# Altium footprint library LGA20-SPE-BMX055.PcbLib: 1 footprints
Each footprint in its own frame and in the unit in brackets; x right, y up, seen from the top. Pads: shape width x height; smd on the part's side, far side on the other; paste and mask are expansions set on the pad; w line width, h text height; cw(c..) or ccw(c..) is an arc to the next point about the centre after c.
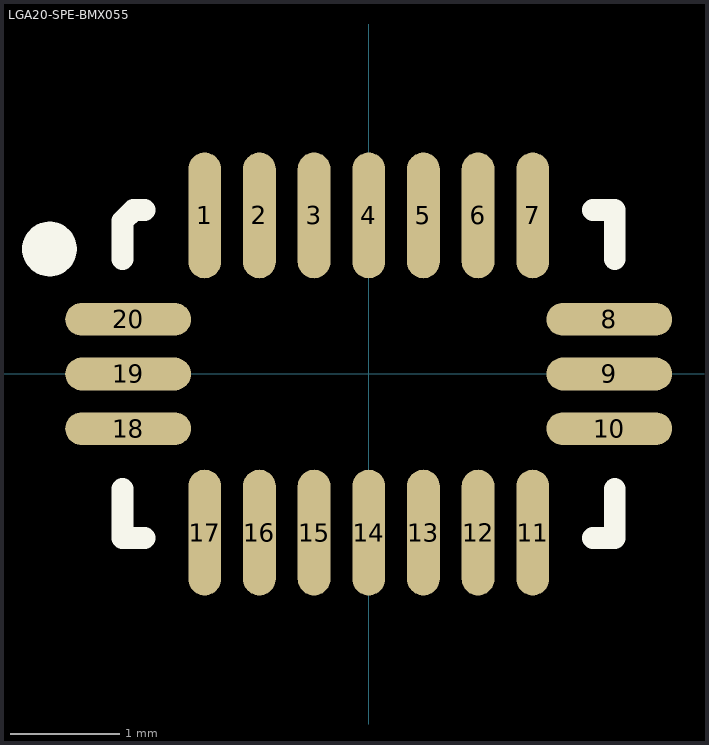
[diagram p0: the footprint, top view; thin cyan lines are the x and y axes]

## LGA20-SPE-BMX055 [mm]
height 1
pads (20):
  oval 0.3x1.15 smd mask+0.05: 1(-1.5,1.45) 2(-1,1.45) 3(-0.5,1.45) 4(0,1.45) 5(0.5,1.45) 6(1,1.45) 7(1.5,1.45) 11(1.5,-1.45) 12(1,-1.45) 13(0.5,-1.45) 14(0,-1.45) 15(-0.5,-1.45) 16(-1,-1.45) 17(-1.5,-1.45)
  oval 1.15x0.3 smd mask+0.05: 8(2.2,0.5) 9(2.2,0) 10(2.2,-0.5) 18(-2.2,-0.5) 19(-2.2,0) 20(-2.2,0.5)
Top Overlay:
  circle w0.25: c-2.919,1.143 r0.125
  lines w0.2: -2.25,-1.05 -2.25,-1.5 -2.05,-1.5 ; -2.25,1.05 -2.25,1.4 -2.15,1.5 -2.05,1.5 ; 2.05,-1.5 2.25,-1.5 2.25,-1.05 ; 2.05,1.5 2.25,1.5 2.25,1.05
3D body: height 1, standoff 0, extent -2.222,-1.524 2.223,1.524